# EAGLE library part TVS_4CHAN_ARRAY (library IotaWatt4.8)
TVS 4 channel array
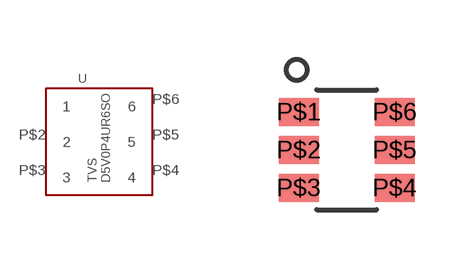
[diagram p3: symbol with the pads of SC-74; footprint SC-74]

Designator prefix -

## TVS_4CHAN_ARRAYSC-74  [SC-74]
P$1  1
P$2  2
P$3  3
P$4  4
P$5  5
P$6  6

## Footprint SC-74 (pad centres in mm)
SOT-26
smd 1 x 0.7: P$1 -1.2,0.95; P$2 -1.2,0; P$3 -1.2,-0.95; P$4 1.2,-0.95; P$5 1.2,0; P$6 1.2,0.95